# Altium schematic symbol library INA139NA250.SchLib: 1 symbol
Pins are listed as number, name and electrical type; pins without a type are passive.

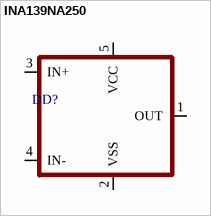
[diagram p0: symbol INA139NA250]

## INA139NA250
designator DD?
pins: 1 OUT, 2 VSS, 3 IN+, 4 IN-, 5 VCC